# Altium integrated library Molex FFC - FPC Connectors (SMT).IntLib: 638 symbols (part 14 of 20)
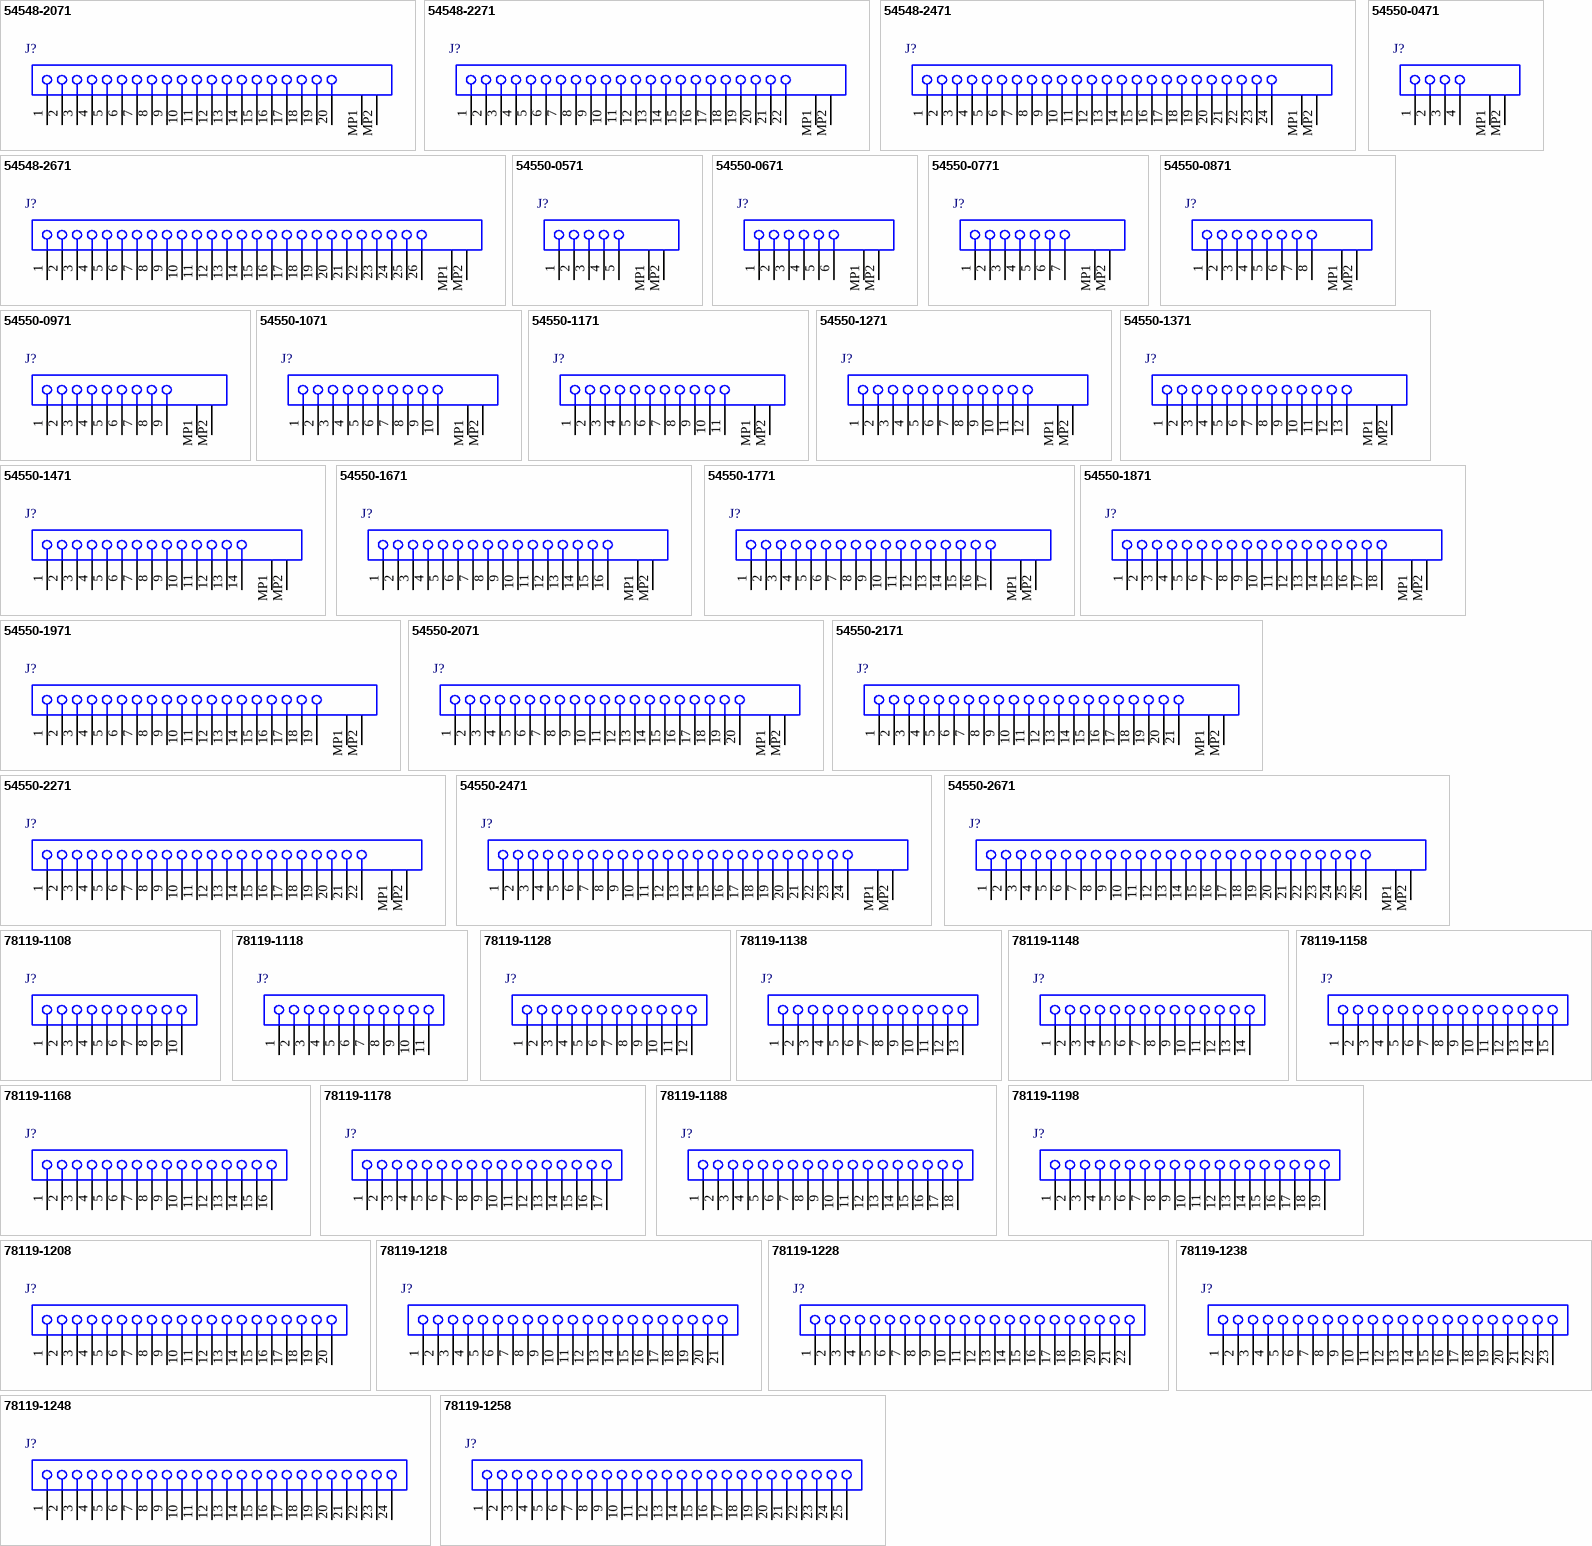
[diagram p34: symbols 54548-2071 to 78119-1258]

## 54550-2471
designator J?
0.5 mm Pitch Easy-On(TM) Type FPC Connector, 1.2 mm Mated Height, Right Angle, ZIF, SMT, Top Contact, 24 Circuits, -20 to 85 degC, ELV and RoHS Compliant, Tape and Reel; Manufacturer: Molex; PartNumber: 54550-2471; Circuits (Loaded): 24; Current (Max per Contact): 0.5A; Durability (mating cycles max): 20; Entry Angle: 90degrees Angle; Mated Height: 1.20mm; Material - Metal: Phosphor Bronze; Material - Plating Mating: Gold; Material - Plating Termination: Tin; PCB Locator: No; PCB Retention: Yes; Pitch - Mating Interface: 0.50mm; Voltage (Max): 50V; PackageVersion: Rev. M, 12/2009; PackageReference: 54550-2471; PackageDescription: 24-Lead FPC Connector, Pitch 0.5 mm; Contact Position: Top; Number of Rows: 1; Orientation: Right Angle; Packing: Tape and Reel; Polarized to PCB: Yes; RoHS: TRUE; Stackable: No; Mounting Technology: Surface Mount; ComponentLink1Description: Manufacturer URL; ComponentLink1URL: http://www.molex.com/molex/index.jsp; ComponentLink2Description: Datasheet; ComponentLink2URL: http://www.molex.com/webdocs/datasheets/pdf/en-us/0545502471_FFC_FPC_CONNECTORS.pdf; ComponentLink3Description: Package Specification; ComponentLink3URL: http://www.molex.com/pdm_docs/sd/545502471_sd.pdf
footprint MOLX-54550-2471 (FPC Connector, 24-Leads, Right Angle, Pitch 0.5 mm, Mated Height 1.2 mm, SMT)
pins: 1, 2, 3, 4, 5, 6, 7, 8, 9, 10, 11, 12, 13, 14, 15, 16, 17, 18, 19, 20, 21, 22, 23, 24, MP1, MP2

## 54550-2671
designator J?
0.5 mm Pitch Easy-On(TM) Type FPC Connector, 1.2 mm Mated Height, Right Angle, ZIF, SMT, Top Contact, 26 Circuits, -20 to 85 degC, ELV and RoHS Compliant, Tape and Reel; Manufacturer: Molex; PartNumber: 54550-2671; Circuits (Loaded): 26; Current (Max per Contact): 0.5A; Durability (mating cycles max): 20; Entry Angle: 90degrees Angle; Mated Height: 1.20mm; Material - Metal: Phosphor Bronze; Material - Plating Mating: Gold; Material - Plating Termination: Tin; PCB Locator: No; PCB Retention: Yes; Pitch - Mating Interface: 0.50mm; Voltage (Max): 50V; PackageVersion: Rev. M, 12/2009; PackageReference: 54550-2671; PackageDescription: 26-Lead FPC Connector, Pitch 0.5 mm; Contact Position: Top; Number of Rows: 1; Orientation: Right Angle; Packing: Tape and Reel; Polarized to PCB: Yes; RoHS: TRUE; Stackable: No; Mounting Technology: Surface Mount; ComponentLink1Description: Manufacturer URL; ComponentLink1URL: http://www.molex.com/molex/index.jsp; ComponentLink2Description: Datasheet; ComponentLink2URL: http://www.molex.com/webdocs/datasheets/pdf/en-us/0545502671_FFC_FPC_CONNECTORS.pdf; ComponentLink3Description: Package Specification; ComponentLink3URL: http://www.molex.com/pdm_docs/sd/545502671_sd.pdf
footprint MOLX-54550-2671 (FPC Connector, 26-Leads, Right Angle, Pitch 0.5 mm, Mated Height 1.2 mm, SMT)
pins: 1, 2, 3, 4, 5, 6, 7, 8, 9, 10, 11, 12, 13, 14, 15, 16, 17, 18, 19, 20, 21, 22, 23, 24, 25, 26, MP1, MP2

## 78119-1108
designator J?
0.5 mm Pitch Easy-On(TM) Type FPC Connector, 4.1 mm Mated Height, Vertical, Non-ZIF, SMT, 10 Circuits, -40 to 85 degC, ELV and RoHS Compliant, Tape and Reel; Manufacturer: Molex; PartNumber: 78119-1108; Circuits (Loaded): 10; Current (Max per Contact): 0.5A; Durability (mating cycles max): 20; Mated Height: 4.10mm; Material - Metal: Copper Alloy; Material - Plating Mating: Gold, Nickel; PCB Locator: No; PCB Retention: None; Pitch - Mating Interface: 0.50mm; Voltage (Max): 50V AC; PackageVersion: Rev. A4, 06/2013; PackageReference: 78119-1108; PackageDescription: 10-Lead FPC Connector, Pitch 0.5 mm; Contact Position: N/A; Entry Angle: Vertical; Number of Rows: 1; Orientation: Vertical; Packing: Tape and Reel; Pitch - Termination Interface: 0.50mm; Polarized to PCB: No; RoHS: TRUE; Stackable: No; Mounting Technology: Surface Mount; ComponentLink1Description: Manufacturer URL; ComponentLink1URL: http://www.molex.com/molex/index.jsp; ComponentLink2Description: Datasheet; ComponentLink2URL: http://www.molex.com/webdocs/datasheets/pdf/en-us/0781191108_FFC_FPC_CONNECTORS.pdf; ComponentLink3Description: Package Specification; ComponentLink3URL: http://www.molex.com/pdm_docs/sd/781191108_sd.pdf
footprint MOLX-78119-1108 (FPC Connector, 10-Leads, Vertical, Pitch 0.5 mm, Mated Height 4.1 mm, SMT)
pins: 1, 2, 3, 4, 5, 6, 7, 8, 9, 10

## 78119-1118
designator J?
0.5 mm Pitch Easy-On(TM) Type FPC Connector, 4.1 mm Mated Height, Vertical, Non-ZIF, SMT, 11 Circuits, -40 to 85 degC, ELV and RoHS Compliant, Tape and Reel; Manufacturer: Molex; PartNumber: 78119-1118; Circuits (Loaded): 11; Current (Max per Contact): 0.5A; Durability (mating cycles max): 20; Mated Height: 4.10mm; Material - Metal: Copper Alloy; Material - Plating Mating: Gold, Nickel; PCB Locator: No; PCB Retention: None; Pitch - Mating Interface: 0.50mm; Voltage (Max): 50V AC; PackageVersion: Rev. A4, 06/2013; PackageReference: 78119-1118; PackageDescription: 11-Lead FPC Connector, Pitch 0.5 mm; Contact Position: N/A; Entry Angle: Vertical; Number of Rows: 1; Orientation: Vertical; Packing: Tape and Reel; Pitch - Termination Interface: 0.50mm; Polarized to PCB: No; RoHS: TRUE; Stackable: No; Mounting Technology: Surface Mount; ComponentLink1Description: Manufacturer URL; ComponentLink1URL: http://www.molex.com/molex/index.jsp; ComponentLink2Description: Datasheet; ComponentLink2URL: http://www.molex.com/webdocs/datasheets/pdf/en-us/0781191118_FFC_FPC_CONNECTORS.pdf; ComponentLink3Description: Package Specification; ComponentLink3URL: http://www.molex.com/pdm_docs/sd/781191118_sd.pdf
footprint MOLX-78119-1118 (FPC Connector, 11-Leads, Vertical, Pitch 0.5 mm, Mated Height 4.1 mm, SMT)
pins: 1, 2, 3, 4, 5, 6, 7, 8, 9, 10, 11

## 78119-1128
designator J?
0.5 mm Pitch Easy-On(TM) Type FPC Connector, 4.1 mm Mated Height, Vertical, Non-ZIF, SMT, 12 Circuits, -40 to 85 degC, ELV and RoHS Compliant, Tape and Reel; Manufacturer: Molex; PartNumber: 78119-1128; Circuits (Loaded): 12; Current (Max per Contact): 0.5A; Durability (mating cycles max): 20; Mated Height: 4.10mm; Material - Metal: Copper Alloy; Material - Plating Mating: Gold, Nickel; PCB Locator: No; PCB Retention: None; Pitch - Mating Interface: 0.50mm; Voltage (Max): 50V AC; PackageVersion: Rev. A4, 06/2013; PackageReference: 78119-1128; PackageDescription: 12-Lead FPC Connector, Pitch 0.5 mm; Contact Position: N/A; Entry Angle: Vertical; Number of Rows: 1; Orientation: Vertical; Packing: Tape and Reel; Pitch - Termination Interface: 0.50mm; Polarized to PCB: No; RoHS: TRUE; Stackable: No; Mounting Technology: Surface Mount; ComponentLink1Description: Manufacturer URL; ComponentLink1URL: http://www.molex.com/molex/index.jsp; ComponentLink2Description: Datasheet; ComponentLink2URL: http://www.molex.com/webdocs/datasheets/pdf/en-us/0781191128_FFC_FPC_CONNECTORS.pdf; ComponentLink3Description: Package Specification; ComponentLink3URL: http://www.molex.com/pdm_docs/sd/781191128_sd.pdf
footprint MOLX-78119-1128 (FPC Connector, 12-Leads, Vertical, Pitch 0.5 mm, Mated Height 4.1 mm, SMT)
pins: 1, 2, 3, 4, 5, 6, 7, 8, 9, 10, 11, 12

## 78119-1138
designator J?
0.5 mm Pitch Easy-On(TM) Type FPC Connector, 4.1 mm Mated Height, Vertical, Non-ZIF, SMT, 13 Circuits, -40 to 85 degC, ELV and RoHS Compliant, Tape and Reel; Manufacturer: Molex; PartNumber: 78119-1138; Circuits (Loaded): 13; Current (Max per Contact): 0.5A; Durability (mating cycles max): 20; Mated Height: 4.10mm; Material - Metal: Copper Alloy; Material - Plating Mating: Gold, Nickel; PCB Locator: No; PCB Retention: None; Pitch - Mating Interface: 0.50mm; Voltage (Max): 50V AC; PackageVersion: Rev. A4, 06/2013; PackageReference: 78119-1138; PackageDescription: 13-Lead FPC Connector, Pitch 0.5 mm; Contact Position: N/A; Entry Angle: Vertical; Number of Rows: 1; Orientation: Vertical; Packing: Tape and Reel; Pitch - Termination Interface: 0.50mm; Polarized to PCB: No; RoHS: TRUE; Stackable: No; Mounting Technology: Surface Mount; ComponentLink1Description: Manufacturer URL; ComponentLink1URL: http://www.molex.com/molex/index.jsp; ComponentLink2Description: Datasheet; ComponentLink2URL: http://www.molex.com/webdocs/datasheets/pdf/en-us/0781191138_FFC_FPC_CONNECTORS.pdf; ComponentLink3Description: Package Specification; ComponentLink3URL: http://www.molex.com/pdm_docs/sd/781191138_sd.pdf
footprint MOLX-78119-1138 (FPC Connector, 13-Leads, Vertical, Pitch 0.5 mm, Mated Height 4.1 mm, SMT)
pins: 1, 2, 3, 4, 5, 6, 7, 8, 9, 10, 11, 12, 13

## 78119-1148
designator J?
0.5 mm Pitch Easy-On(TM) Type FPC Connector, 4.1 mm Mated Height, Vertical, Non-ZIF, SMT, 14 Circuits, -40 to 85 degC, ELV and RoHS Compliant, Tape and Reel; Manufacturer: Molex; PartNumber: 78119-1148; Circuits (Loaded): 14; Current (Max per Contact): 0.5A; Durability (mating cycles max): 20; Mated Height: 4.10mm; Material - Metal: Copper Alloy; Material - Plating Mating: Gold, Nickel; PCB Locator: No; PCB Retention: None; Pitch - Mating Interface: 0.50mm; Voltage (Max): 50V AC; PackageVersion: Rev. A4, 06/2013; PackageReference: 78119-1148; PackageDescription: 14-Lead FPC Connector, Pitch 0.5 mm; Contact Position: N/A; Entry Angle: Vertical; Number of Rows: 1; Orientation: Vertical; Packing: Tape and Reel; Pitch - Termination Interface: 0.50mm; Polarized to PCB: No; RoHS: TRUE; Stackable: No; Mounting Technology: Surface Mount; ComponentLink1Description: Manufacturer URL; ComponentLink1URL: http://www.molex.com/molex/index.jsp; ComponentLink2Description: Datasheet; ComponentLink2URL: http://www.molex.com/webdocs/datasheets/pdf/en-us/0781191148_FFC_FPC_CONNECTORS.pdf; ComponentLink3Description: Package Specification; ComponentLink3URL: http://www.molex.com/pdm_docs/sd/781191148_sd.pdf
footprint MOLX-78119-1148 (FPC Connector, 14-Leads, Vertical, Pitch 0.5 mm, Mated Height 4.1 mm, SMT)
pins: 1, 2, 3, 4, 5, 6, 7, 8, 9, 10, 11, 12, 13, 14

## 78119-1158
designator J?
0.5 mm Pitch Easy-On(TM) Type FPC Connector, 4.1 mm Mated Height, Vertical, Non-ZIF, SMT, 15 Circuits, -40 to 85 degC, ELV and RoHS Compliant, Tape and Reel; Manufacturer: Molex; PartNumber: 78119-1158; Circuits (Loaded): 15; Current (Max per Contact): 0.5A; Durability (mating cycles max): 20; Mated Height: 4.10mm; Material - Metal: Copper Alloy; Material - Plating Mating: Gold, Nickel; PCB Locator: No; PCB Retention: None; Pitch - Mating Interface: 0.50mm; Voltage (Max): 50V AC; PackageVersion: Rev. A4, 06/2013; PackageReference: 78119-1158; PackageDescription: 15-Lead FPC Connector, Pitch 0.5 mm; Contact Position: N/A; Entry Angle: Vertical; Number of Rows: 1; Orientation: Vertical; Packing: Tape and Reel; Pitch - Termination Interface: 0.50mm; Polarized to PCB: No; RoHS: TRUE; Stackable: No; Mounting Technology: Surface Mount; ComponentLink1Description: Manufacturer URL; ComponentLink1URL: http://www.molex.com/molex/index.jsp; ComponentLink2Description: Datasheet; ComponentLink2URL: http://www.molex.com/webdocs/datasheets/pdf/en-us/0781191158_FFC_FPC_CONNECTORS.pdf; ComponentLink3Description: Package Specification; ComponentLink3URL: http://www.molex.com/pdm_docs/sd/781191158_sd.pdf
footprint MOLX-78119-1158 (FPC Connector, 15-Leads, Vertical, Pitch 0.5 mm, Mated Height 4.1 mm, SMT)
pins: 1, 2, 3, 4, 5, 6, 7, 8, 9, 10, 11, 12, 13, 14, 15

## 78119-1168
designator J?
0.5 mm Pitch Easy-On(TM) Type FPC Connector, 4.1 mm Mated Height, Vertical, Non-ZIF, SMT, 16 Circuits, -40 to 85 degC, ELV and RoHS Compliant, Tape and Reel; Manufacturer: Molex; PartNumber: 78119-1168; Circuits (Loaded): 16; Current (Max per Contact): 0.5A; Durability (mating cycles max): 20; Mated Height: 4.10mm; Material - Metal: Copper Alloy; Material - Plating Mating: Gold, Nickel; PCB Locator: No; PCB Retention: None; Pitch - Mating Interface: 0.50mm; Voltage (Max): 50V AC; PackageVersion: Rev. A4, 06/2013; PackageReference: 78119-1168; PackageDescription: 16-Lead FPC Connector, Pitch 0.5 mm; Contact Position: N/A; Entry Angle: Vertical; Number of Rows: 1; Orientation: Vertical; Packing: Tape and Reel; Pitch - Termination Interface: 0.50mm; Polarized to PCB: No; RoHS: TRUE; Stackable: No; Mounting Technology: Surface Mount; ComponentLink1Description: Manufacturer URL; ComponentLink1URL: http://www.molex.com/molex/index.jsp; ComponentLink2Description: Datasheet; ComponentLink2URL: http://www.molex.com/webdocs/datasheets/pdf/en-us/0781191168_FFC_FPC_CONNECTORS.pdf; ComponentLink3Description: Package Specification; ComponentLink3URL: http://www.molex.com/pdm_docs/sd/781191168_sd.pdf
footprint MOLX-78119-1168 (FPC Connector, 16-Leads, Vertical, Pitch 0.5 mm, Mated Height 4.1 mm, SMT)
pins: 1, 2, 3, 4, 5, 6, 7, 8, 9, 10, 11, 12, 13, 14, 15, 16

## 78119-1178
designator J?
0.5 mm Pitch Easy-On(TM) Type FPC Connector, 4.1 mm Mated Height, Vertical, Non-ZIF, SMT, 17 Circuits, -40 to 85 degC, ELV and RoHS Compliant, Tape and Reel; Manufacturer: Molex; PartNumber: 78119-1178; Circuits (Loaded): 17; Current (Max per Contact): 0.5A; Durability (mating cycles max): 20; Mated Height: 4.10mm; Material - Metal: Copper Alloy; Material - Plating Mating: Gold, Nickel; PCB Locator: No; PCB Retention: None; Pitch - Mating Interface: 0.50mm; Voltage (Max): 50V AC; PackageVersion: Rev. A4, 06/2013; PackageReference: 78119-1178; PackageDescription: 17-Lead FPC Connector, Pitch 0.5 mm; Contact Position: N/A; Entry Angle: Vertical; Number of Rows: 1; Orientation: Vertical; Packing: Tape and Reel; Pitch - Termination Interface: 0.50mm; Polarized to PCB: No; RoHS: TRUE; Stackable: No; Mounting Technology: Surface Mount; ComponentLink1Description: Manufacturer URL; ComponentLink1URL: http://www.molex.com/molex/index.jsp; ComponentLink2Description: Datasheet; ComponentLink2URL: http://www.molex.com/webdocs/datasheets/pdf/en-us/0781191178_FFC_FPC_CONNECTORS.pdf; ComponentLink3Description: Package Specification; ComponentLink3URL: http://www.molex.com/pdm_docs/sd/781191178_sd.pdf
footprint MOLX-78119-1178 (FPC Connector, 17-Leads, Vertical, Pitch 0.5 mm, Mated Height 4.1 mm, SMT)
pins: 1, 2, 3, 4, 5, 6, 7, 8, 9, 10, 11, 12, 13, 14, 15, 16, 17

## 78119-1188
designator J?
0.5 mm Pitch Easy-On(TM) Type FPC Connector, 4.1 mm Mated Height, Vertical, Non-ZIF, SMT, 18 Circuits, -40 to 85 degC, ELV and RoHS Compliant, Tape and Reel; Manufacturer: Molex; PartNumber: 78119-1188; Circuits (Loaded): 18; Current (Max per Contact): 0.5A; Durability (mating cycles max): 20; Mated Height: 4.10mm; Material - Metal: Copper Alloy; Material - Plating Mating: Gold, Nickel; PCB Locator: No; PCB Retention: None; Pitch - Mating Interface: 0.50mm; Voltage (Max): 50V AC; PackageVersion: Rev. A4, 06/2013; PackageReference: 78119-1188; PackageDescription: 18-Lead FPC Connector, Pitch 0.5 mm; Contact Position: N/A; Entry Angle: Vertical; Number of Rows: 1; Orientation: Vertical; Packing: Tape and Reel; Pitch - Termination Interface: 0.50mm; Polarized to PCB: No; RoHS: TRUE; Stackable: No; Mounting Technology: Surface Mount; ComponentLink1Description: Manufacturer URL; ComponentLink1URL: http://www.molex.com/molex/index.jsp; ComponentLink2Description: Datasheet; ComponentLink2URL: http://www.molex.com/webdocs/datasheets/pdf/en-us/0781191188_FFC_FPC_CONNECTORS.pdf; ComponentLink3Description: Package Specification; ComponentLink3URL: http://www.molex.com/pdm_docs/sd/781191188_sd.pdf
footprint MOLX-78119-1188 (FPC Connector, 18-Leads, Vertical, Pitch 0.5 mm, Mated Height 4.1 mm, SMT)
pins: 1, 2, 3, 4, 5, 6, 7, 8, 9, 10, 11, 12, 13, 14, 15, 16, 17, 18

## 78119-1198
designator J?
0.5 mm Pitch Easy-On(TM) Type FPC Connector, 4.1 mm Mated Height, Vertical, Non-ZIF, SMT, 19 Circuits, -40 to 85 degC, ELV and RoHS Compliant, Tape and Reel; Manufacturer: Molex; PartNumber: 78119-1198; Circuits (Loaded): 19; Current (Max per Contact): 0.5A; Durability (mating cycles max): 20; Mated Height: 4.10mm; Material - Metal: Copper Alloy; Material - Plating Mating: Gold, Nickel; PCB Locator: No; PCB Retention: None; Pitch - Mating Interface: 0.50mm; Voltage (Max): 50V AC; PackageVersion: Rev. A4, 06/2013; PackageReference: 78119-1198; PackageDescription: 19-Lead FPC Connector, Pitch 0.5 mm; Contact Position: N/A; Entry Angle: Vertical; Number of Rows: 1; Orientation: Vertical; Packing: Tape and Reel; Pitch - Termination Interface: 0.50mm; Polarized to PCB: No; RoHS: TRUE; Stackable: No; Mounting Technology: Surface Mount; ComponentLink1Description: Manufacturer URL; ComponentLink1URL: http://www.molex.com/molex/index.jsp; ComponentLink2Description: Datasheet; ComponentLink2URL: http://www.molex.com/webdocs/datasheets/pdf/en-us/0781191198_FFC_FPC_CONNECTORS.pdf; ComponentLink3Description: Package Specification; ComponentLink3URL: http://www.molex.com/pdm_docs/sd/781191198_sd.pdf
footprint MOLX-78119-1198 (FPC Connector, 19-Leads, Vertical, Pitch 0.5 mm, Mated Height 4.1 mm, SMT)
pins: 1, 2, 3, 4, 5, 6, 7, 8, 9, 10, 11, 12, 13, 14, 15, 16, 17, 18, 19

## 78119-1208
designator J?
0.5 mm Pitch Easy-On(TM) Type FPC Connector, 4.1 mm Mated Height, Vertical, Non-ZIF, SMT, 20 Circuits, -40 to 85 degC, ELV and RoHS Compliant, Tape and Reel; Manufacturer: Molex; PartNumber: 78119-1208; Circuits (Loaded): 20; Current (Max per Contact): 0.5A; Mated Height: 4.10mm; Material - Metal: Copper Alloy; Material - Plating Mating: Gold, Nickel; PCB Locator: No; PCB Retention: None; Pitch - Mating Interface: 0.50mm; Voltage (Max): 50V AC; PackageVersion: Rev. A4, 06/2013; PackageReference: 78119-1208; PackageDescription: 20-Lead FPC Connector, Pitch 0.5 mm; Contact Position: N/A; Durability (mating cycles max): 20; Entry Angle: Vertical; Number of Rows: 1; Orientation: Vertical; Packing: Tape and Reel; Pitch - Termination Interface: 0.50mm; Polarized to PCB: No; RoHS: TRUE; Stackable: No; Mounting Technology: Surface Mount; ComponentLink1Description: Manufacturer URL; ComponentLink1URL: http://www.molex.com/molex/index.jsp; ComponentLink2Description: Datasheet; ComponentLink2URL: http://www.molex.com/webdocs/datasheets/pdf/en-us/0781191208_FFC_FPC_CONNECTORS.pdf; ComponentLink3Description: Package Specification; ComponentLink3URL: http://www.molex.com/pdm_docs/sd/781191208_sd.pdf
footprint MOLX-78119-1208 (FPC Connector, 20-Leads, Vertical, Pitch 0.5 mm, Mated Height 4.1 mm, SMT)
pins: 1, 2, 3, 4, 5, 6, 7, 8, 9, 10, 11, 12, 13, 14, 15, 16, 17, 18, 19, 20

## 78119-1218
designator J?
0.5 mm Pitch Easy-On(TM) Type FPC Connector, 4.1 mm Mated Height, Vertical, Non-ZIF, SMT, 21 Circuits, -40 to 85 degC, ELV and RoHS Compliant, Tape and Reel; Manufacturer: Molex; PartNumber: 78119-1218; Circuits (Loaded): 21; Current (Max per Contact): 0.5A; Durability (mating cycles max): 20; Mated Height: 4.10mm; Material - Metal: Copper Alloy; Material - Plating Mating: Gold, Nickel; PCB Locator: No; PCB Retention: None; Pitch - Mating Interface: 0.50mm; Voltage (Max): 50V AC; PackageVersion: Rev. A4, 06/2013; PackageReference: 78119-1218; PackageDescription: 21-Lead FPC Connector, Pitch 0.5 mm; Contact Position: N/A; Entry Angle: Vertical; Number of Rows: 1; Orientation: Vertical; Packing: Tape and Reel; Pitch - Termination Interface: 0.50mm; Polarized to PCB: No; RoHS: TRUE; Stackable: No; Mounting Technology: Surface Mount; ComponentLink1Description: Manufacturer URL; ComponentLink1URL: http://www.molex.com/molex/index.jsp; ComponentLink2Description: Datasheet; ComponentLink2URL: http://www.molex.com/webdocs/datasheets/pdf/en-us/0781191218_FFC_FPC_CONNECTORS.pdf; ComponentLink3Description: Package Specification; ComponentLink3URL: http://www.molex.com/pdm_docs/sd/781191218_sd.pdf
footprint MOLX-78119-1218 (FPC Connector, 21-Leads, Vertical, Pitch 0.5 mm, Mated Height 4.1 mm, SMT)
pins: 1, 2, 3, 4, 5, 6, 7, 8, 9, 10, 11, 12, 13, 14, 15, 16, 17, 18, 19, 20, 21

## 78119-1228
designator J?
0.5 mm Pitch Easy-On(TM) Type FPC Connector, 4.1 mm Mated Height, Vertical, Non-ZIF, SMT, 22 Circuits, -40 to 85 degC, ELV and RoHS Compliant, Tape and Reel; Manufacturer: Molex; PartNumber: 78119-1228; Circuits (Loaded): 22; Current (Max per Contact): 0.5A; Durability (mating cycles max): 20; Mated Height: 4.10mm; Material - Metal: Copper Alloy; Material - Plating Mating: Gold, Nickel; PCB Locator: No; PCB Retention: None; Pitch - Mating Interface: 0.50mm; Voltage (Max): 50V AC; PackageVersion: Rev. A4, 06/2013; PackageReference: 78119-1228; PackageDescription: 22-Lead FPC Connector, Pitch 0.5 mm; Contact Position: N/A; Entry Angle: Vertical; Number of Rows: 1; Orientation: Vertical; Packing: Tape and Reel; Pitch - Termination Interface: 0.50mm; Polarized to PCB: No; RoHS: TRUE; Stackable: No; Mounting Technology: Surface Mount; ComponentLink1Description: Manufacturer URL; ComponentLink1URL: http://www.molex.com/molex/index.jsp; ComponentLink2Description: Datasheet; ComponentLink2URL: http://www.molex.com/webdocs/datasheets/pdf/en-us/0781191228_FFC_FPC_CONNECTORS.pdf; ComponentLink3Description: Package Specification; ComponentLink3URL: http://www.molex.com/pdm_docs/sd/781191228_sd.pdf
footprint MOLX-78119-1228 (FPC Connector, 22-Leads, Vertical, Pitch 0.5 mm, Mated Height 4.1 mm, SMT)
pins: 1, 2, 3, 4, 5, 6, 7, 8, 9, 10, 11, 12, 13, 14, 15, 16, 17, 18, 19, 20, 21, 22

## 78119-1238
designator J?
0.5 mm Pitch Easy-On(TM) Type FPC Connector, 4.1 mm Mated Height, Vertical, Non-ZIF, SMT, 23 Circuits, -40 to 85 degC, ELV and RoHS Compliant, Tape and Reel; Manufacturer: Molex; PartNumber: 78119-1238; Circuits (Loaded): 23; Current (Max per Contact): 0.5A; Durability (mating cycles max): 20; Mated Height: 4.10mm; Material - Metal: Copper Alloy; Material - Plating Mating: Gold, Nickel; PCB Locator: No; PCB Retention: None; Pitch - Mating Interface: 0.50mm; Voltage (Max): 50V AC; PackageVersion: Rev. A4, 06/2013; PackageReference: 78119-1238; PackageDescription: 23-Lead FPC Connector, Pitch 0.5 mm; Contact Position: N/A; Entry Angle: Vertical; Number of Rows: 1; Orientation: Vertical; Packing: Tape and Reel; Pitch - Termination Interface: 0.50mm; Polarized to PCB: No; RoHS: TRUE; Stackable: No; Mounting Technology: Surface Mount; ComponentLink1Description: Manufacturer URL; ComponentLink1URL: http://www.molex.com/molex/index.jsp; ComponentLink2Description: Datasheet; ComponentLink2URL: http://www.molex.com/webdocs/datasheets/pdf/en-us/0781191238_FFC_FPC_CONNECTORS.pdf; ComponentLink3Description: Package Specification; ComponentLink3URL: http://www.molex.com/pdm_docs/sd/781191238_sd.pdf
footprint MOLX-78119-1238 (FPC Connector, 23-Leads, Vertical, Pitch 0.5 mm, Mated Height 4.1 mm, SMT)
pins: 1, 2, 3, 4, 5, 6, 7, 8, 9, 10, 11, 12, 13, 14, 15, 16, 17, 18, 19, 20, 21, 22, 23

## 78119-1248
designator J?
0.5 mm Pitch Easy-On(TM) Type FPC Connector, 4.1 mm Mated Height, Vertical, Non-ZIF, SMT, 24 Circuits, -40 to 85 degC, ELV and RoHS Compliant, Tape and Reel; Manufacturer: Molex; PartNumber: 78119-1248; Circuits (Loaded): 24; Current (Max per Contact): 0.5A; Durability (mating cycles max): 20; Mated Height: 4.10mm; Material - Metal: Copper Alloy; Material - Plating Mating: Gold, Nickel; PCB Locator: No; PCB Retention: None; Pitch - Mating Interface: 0.50mm; Voltage (Max): 50V AC; PackageVersion: Rev. A4, 06/2013; PackageReference: 78119-1248; PackageDescription: 24-Lead FPC Connector, Pitch 0.5 mm; Contact Position: N/A; Entry Angle: Vertical; Number of Rows: 1; Orientation: Vertical; Packing: Tape and Reel; Pitch - Termination Interface: 0.50mm; Polarized to PCB: No; RoHS: TRUE; Stackable: No; Mounting Technology: Surface Mount; ComponentLink1Description: Manufacturer URL; ComponentLink1URL: http://www.molex.com/molex/index.jsp; ComponentLink2Description: Datasheet; ComponentLink2URL: http://www.molex.com/webdocs/datasheets/pdf/en-us/0781191248_FFC_FPC_CONNECTORS.pdf; ComponentLink3Description: Package Specification; ComponentLink3URL: http://www.molex.com/pdm_docs/sd/781191248_sd.pdf
footprint MOLX-78119-1248 (FPC Connector, 24-Leads, Vertical, Pitch 0.5 mm, Mated Height 4.1 mm, SMT)
pins: 1, 2, 3, 4, 5, 6, 7, 8, 9, 10, 11, 12, 13, 14, 15, 16, 17, 18, 19, 20, 21, 22, 23, 24

## 78119-1258
designator J?
0.5 mm Pitch Easy-On(TM) Type FPC Connector, 4.1 mm Mated Height, Vertical, Non-ZIF, SMT, 25 Circuits, -40 to 85 degC, ELV and RoHS Compliant, Tape and Reel; Manufacturer: Molex; PartNumber: 78119-1258; Circuits (Loaded): 25; Current (Max per Contact): 0.5A; Durability (mating cycles max): 20; Mated Height: 4.10mm; Material - Metal: Copper Alloy; Material - Plating Mating: Gold, Nickel; PCB Locator: No; PCB Retention: None; Pitch - Mating Interface: 0.50mm; Voltage (Max): 50V AC; PackageVersion: Rev. A4, 06/2013; PackageReference: 78119-1258; PackageDescription: 25-Lead FPC Connector, Pitch 0.5 mm; Contact Position: N/A; Entry Angle: Vertical; Number of Rows: 1; Orientation: Vertical; Packing: Tape and Reel; Pitch - Termination Interface: 0.50mm; Polarized to PCB: No; RoHS: TRUE; Stackable: No; Mounting Technology: Surface Mount; ComponentLink1Description: Manufacturer URL; ComponentLink1URL: http://www.molex.com/molex/index.jsp; ComponentLink2Description: Datasheet; ComponentLink2URL: http://www.molex.com/webdocs/datasheets/pdf/en-us/0781191258_FFC_FPC_CONNECTORS.pdf; ComponentLink3Description: Package Specification; ComponentLink3URL: http://www.molex.com/pdm_docs/sd/781191258_sd.pdf
footprint MOLX-78119-1258 (FPC Connector, 25-Leads, Vertical, Pitch 0.5 mm, Mated Height 4.1 mm, SMT)
pins: 1, 2, 3, 4, 5, 6, 7, 8, 9, 10, 11, 12, 13, 14, 15, 16, 17, 18, 19, 20, 21, 22, 23, 24, 25

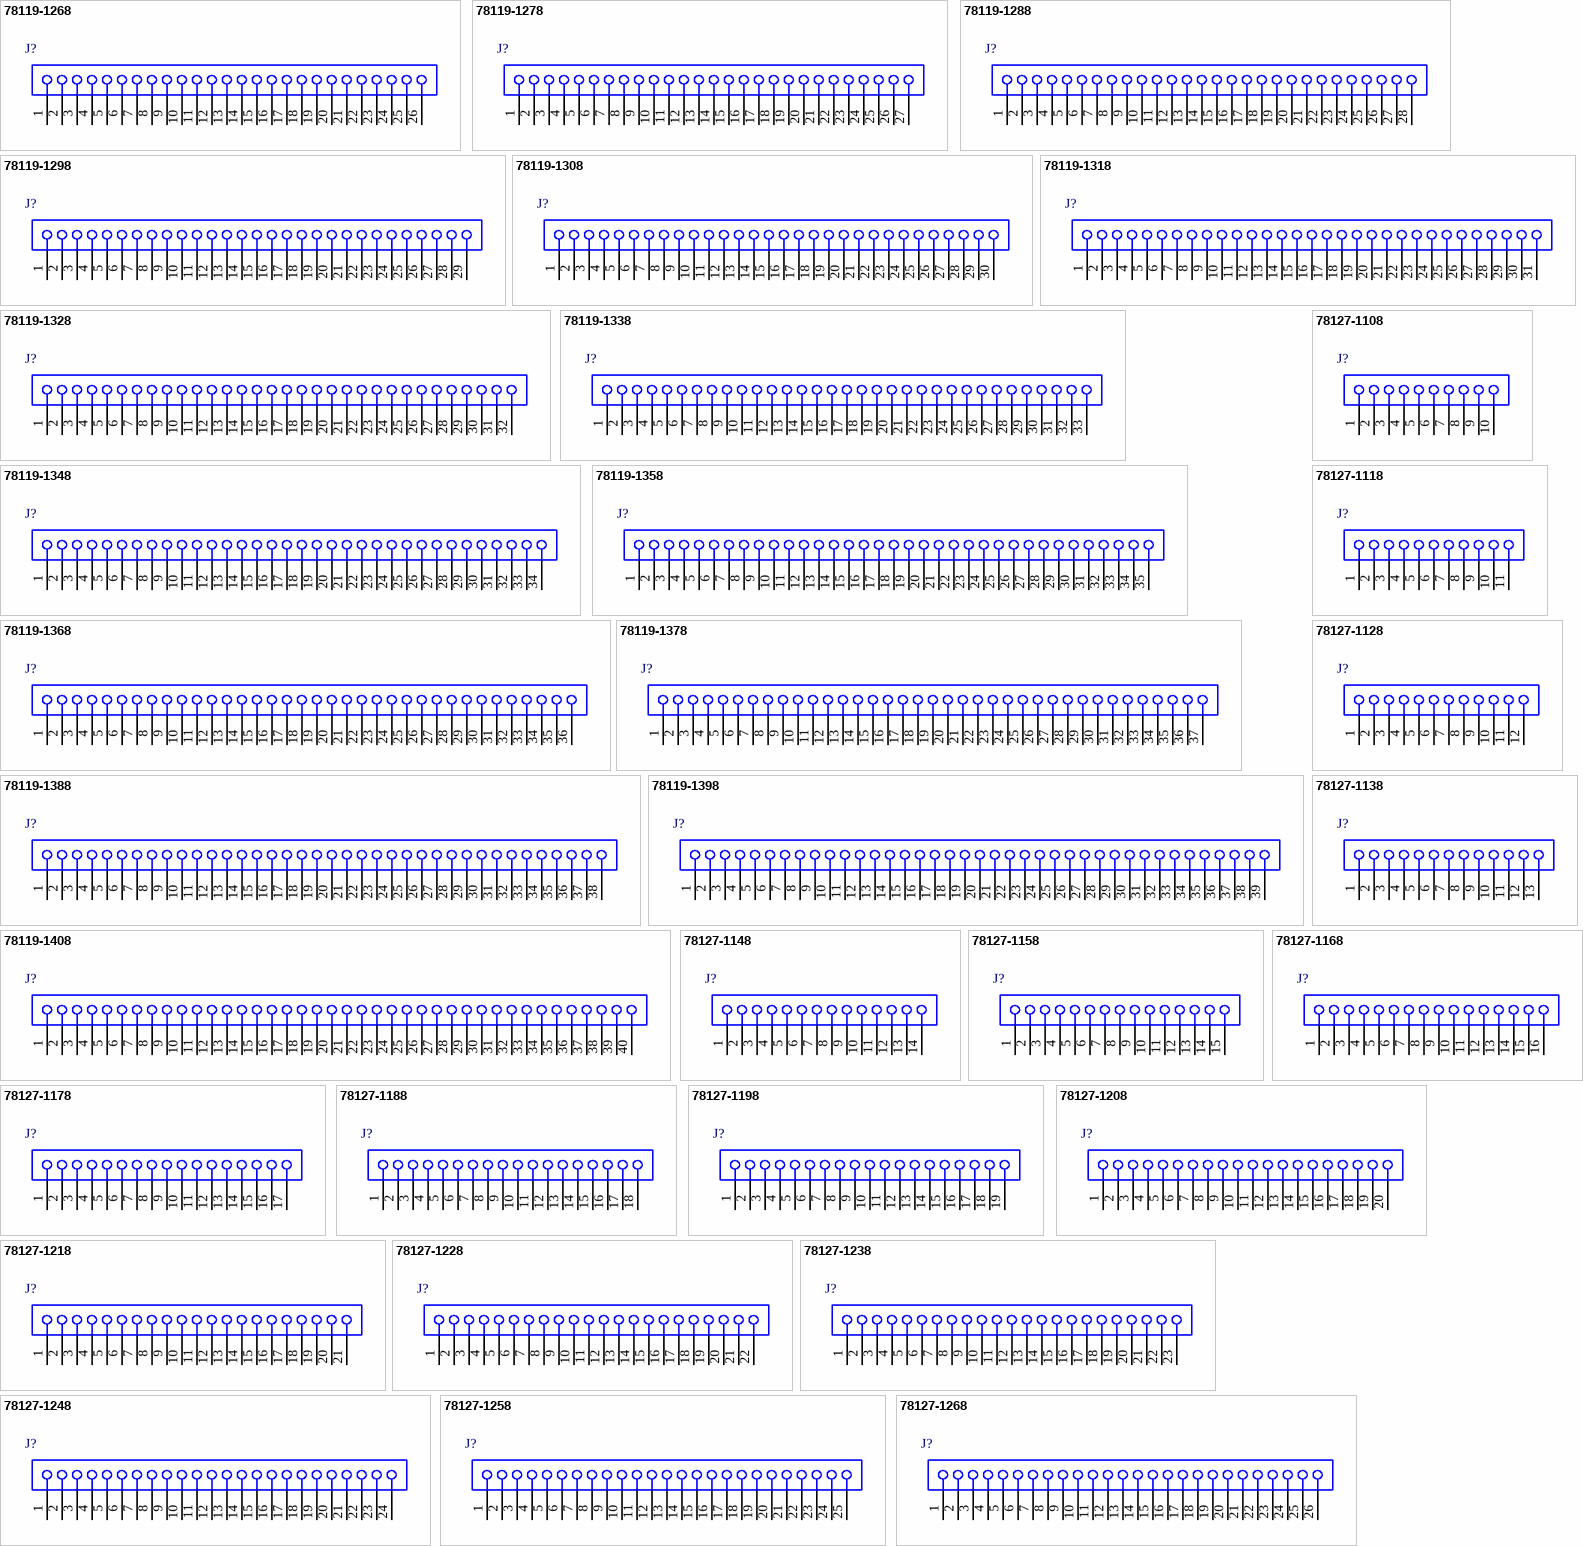
[diagram p13: symbols 78119-1268 to 78127-1268]

## 78119-1268
designator J?
0.5 mm Pitch Easy-On(TM) Type FPC Connector, 4.1 mm Mated Height, Vertical, Non-ZIF, SMT, 26 Circuits, -40 to 85 degC, ELV and RoHS Compliant, Tape and Reel; Manufacturer: Molex; PartNumber: 78119-1268; Circuits (Loaded): 26; Current (Max per Contact): 0.5A; Durability (mating cycles max): 20; Mated Height: 4.10mm; Material - Metal: Copper Alloy; Material - Plating Mating: Gold, Nickel; PCB Locator: No; PCB Retention: None; Pitch - Mating Interface: 0.50mm; Voltage (Max): 50V AC; PackageVersion: Rev. A4, 06/2013; PackageReference: 78119-1268; PackageDescription: 26-Lead FPC Connector, Pitch 0.5 mm; Contact Position: N/A; Entry Angle: Vertical; Number of Rows: 1; Orientation: Vertical; Packing: Tape and Reel; Pitch - Termination Interface: 0.50mm; Polarized to PCB: No; RoHS: TRUE; Stackable: No; Mounting Technology: Surface Mount; ComponentLink1Description: Manufacturer URL; ComponentLink1URL: http://www.molex.com/molex/index.jsp; ComponentLink2Description: Datasheet; ComponentLink2URL: http://www.molex.com/webdocs/datasheets/pdf/en-us/0781191268_FFC_FPC_CONNECTORS.pdf; ComponentLink3Description: Package Specification; ComponentLink3URL: http://www.molex.com/pdm_docs/sd/781191268_sd.pdf
footprint MOLX-78119-1268 (FPC Connector, 26-Leads, Vertical, Pitch 0.5 mm, Mated Height 4.1 mm, SMT)
pins: 1, 2, 3, 4, 5, 6, 7, 8, 9, 10, 11, 12, 13, 14, 15, 16, 17, 18, 19, 20, 21, 22, 23, 24, 25, 26

## 78119-1278
designator J?
0.5 mm Pitch Easy-On(TM) Type FPC Connector, 4.1 mm Mated Height, Vertical, Non-ZIF, SMT, 27 Circuits, -40 to 85 degC, ELV and RoHS Compliant, Tape and Reel; Manufacturer: Molex; PartNumber: 78119-1278; Circuits (Loaded): 27; Current (Max per Contact): 0.5A; Durability (mating cycles max): 20; Mated Height: 4.10mm; Material - Metal: Copper Alloy; Material - Plating Mating: Gold, Nickel; PCB Locator: No; PCB Retention: None; Pitch - Mating Interface: 0.50mm; Voltage (Max): 50V AC; PackageVersion: Rev. A4, 06/2013; PackageReference: 78119-1278; PackageDescription: 27-Lead FPC Connector, Pitch 0.5 mm; Contact Position: N/A; Entry Angle: Vertical; Number of Rows: 1; Orientation: Vertical; Packing: Tape and Reel; Pitch - Termination Interface: 0.50mm; Polarized to PCB: No; RoHS: TRUE; Stackable: No; Mounting Technology: Surface Mount; ComponentLink1Description: Manufacturer URL; ComponentLink1URL: http://www.molex.com/molex/index.jsp; ComponentLink2Description: Datasheet; ComponentLink2URL: http://www.molex.com/webdocs/datasheets/pdf/en-us/0781191278_FFC_FPC_CONNECTORS.pdf; ComponentLink3Description: Package Specification; ComponentLink3URL: http://www.molex.com/pdm_docs/sd/781191278_sd.pdf
footprint MOLX-78119-1278 (FPC Connector, 27-Leads, Vertical, Pitch 0.5 mm, Mated Height 4.1 mm, SMT)
pins: 1, 2, 3, 4, 5, 6, 7, 8, 9, 10, 11, 12, 13, 14, 15, 16, 17, 18, 19, 20, 21, 22, 23, 24, 25, 26, 27

## 78119-1288
designator J?
0.5 mm Pitch Easy-On(TM) Type FPC Connector, 4.1 mm Mated Height, Vertical, Non-ZIF, SMT, 28 Circuits, -40 to 85 degC, ELV and RoHS Compliant, Tape and Reel; Manufacturer: Molex; PartNumber: 78119-1288; Circuits (Loaded): 28; Current (Max per Contact): 0.5A; Durability (mating cycles max): 20; Mated Height: 4.10mm; Material - Metal: Copper Alloy; Material - Plating Mating: Gold, Nickel; PCB Locator: No; PCB Retention: None; Pitch - Mating Interface: 0.50mm; Voltage (Max): 50V AC; PackageVersion: Rev. A4, 06/2013; PackageReference: 78119-1288; PackageDescription: 28-Lead FPC Connector, Pitch 0.5 mm; Contact Position: N/A; Entry Angle: Vertical; Number of Rows: 1; Orientation: Vertical; Packing: Tape and Reel; Pitch - Termination Interface: 0.50mm; Polarized to PCB: No; RoHS: TRUE; Stackable: No; Mounting Technology: Surface Mount; ComponentLink1Description: Manufacturer URL; ComponentLink1URL: http://www.molex.com/molex/index.jsp; ComponentLink2Description: Datasheet; ComponentLink2URL: http://www.molex.com/webdocs/datasheets/pdf/en-us/0781191288_FFC_FPC_CONNECTORS.pdf; ComponentLink3Description: Package Specification; ComponentLink3URL: http://www.molex.com/pdm_docs/sd/781191288_sd.pdf
footprint MOLX-78119-1288 (FPC Connector, 28-Leads, Vertical, Pitch 0.5 mm, Mated Height 4.1 mm, SMT)
pins: 1, 2, 3, 4, 5, 6, 7, 8, 9, 10, 11, 12, 13, 14, 15, 16, 17, 18, 19, 20, 21, 22, 23, 24, 25, 26, 27, 28

## 78119-1298
designator J?
0.5 mm Pitch Easy-On(TM) Type FPC Connector, 4.1 mm Mated Height, Vertical, Non-ZIF, SMT, 29 Circuits, -40 to 85 degC, ELV and RoHS Compliant, Tape and Reel; Manufacturer: Molex; PartNumber: 78119-1298; Circuits (Loaded): 29; Current (Max per Contact): 0.5A; Durability (mating cycles max): 20; Mated Height: 4.10mm; Material - Metal: Copper Alloy; Material - Plating Mating: Gold, Nickel; PCB Locator: No; PCB Retention: None; Pitch - Mating Interface: 0.50mm; Voltage (Max): 50V AC; PackageVersion: Rev. A4, 06/2013; PackageReference: 78119-1298; PackageDescription: 29-Lead FPC Connector, Pitch 0.5 mm; Contact Position: N/A; Entry Angle: Vertical; Number of Rows: 1; Orientation: Vertical; Packing: Tape and Reel; Pitch - Termination Interface: 0.50mm; Polarized to PCB: No; RoHS: TRUE; Stackable: No; Mounting Technology: Surface Mount; ComponentLink1Description: Manufacturer URL; ComponentLink1URL: http://www.molex.com/molex/index.jsp; ComponentLink2Description: Datasheet; ComponentLink2URL: http://www.molex.com/webdocs/datasheets/pdf/en-us/0781191298_FFC_FPC_CONNECTORS.pdf; ComponentLink3Description: Package Specification; ComponentLink3URL: http://www.molex.com/pdm_docs/sd/781191298_sd.pdf
footprint MOLX-78119-1298 (FPC Connector, 29-Leads, Vertical, Pitch 0.5 mm, Mated Height 4.1 mm, SMT)
pins: 1, 2, 3, 4, 5, 6, 7, 8, 9, 10, 11, 12, 13, 14, 15, 16, 17, 18, 19, 20, 21, 22, 23, 24, 25, 26, 27, 28, 29

## 78119-1308
designator J?
0.5 mm Pitch Easy-On(TM) Type FPC Connector, 4.1 mm Mated Height, Vertical, Non-ZIF, SMT, 30 Circuits, -40 to 85 degC, ELV and RoHS Compliant, Tape and Reel; Manufacturer: Molex; PartNumber: 78119-1308; Circuits (Loaded): 30; Current (Max per Contact): 0.5A; Durability (mating cycles max): 20; Mated Height: 4.10mm; Material - Metal: Copper Alloy; Material - Plating Mating: Gold, Nickel; PCB Locator: No; PCB Retention: None; Pitch - Mating Interface: 0.50mm; Voltage (Max): 50V AC; PackageVersion: Rev. A4, 06/2013; PackageReference: 78119-1308; PackageDescription: 30-Lead FPC Connector, Pitch 0.5 mm; Contact Position: N/A; Entry Angle: Vertical; Number of Rows: 1; Orientation: Vertical; Packing: Tape and Reel; Pitch - Termination Interface: 0.50mm; Polarized to PCB: No; RoHS: TRUE; Stackable: No; Mounting Technology: Surface Mount; ComponentLink1Description: Manufacturer URL; ComponentLink1URL: http://www.molex.com/molex/index.jsp; ComponentLink2Description: Datasheet; ComponentLink2URL: http://www.molex.com/webdocs/datasheets/pdf/en-us/0781191308_FFC_FPC_CONNECTORS.pdf; ComponentLink3Description: Package Specification; ComponentLink3URL: http://www.molex.com/pdm_docs/sd/781191308_sd.pdf
footprint MOLX-78119-1308 (FPC Connector, 30-Leads, Vertical, Pitch 0.5 mm, Mated Height 4.1 mm, SMT)
pins: 1, 2, 3, 4, 5, 6, 7, 8, 9, 10, 11, 12, 13, 14, 15, 16, 17, 18, 19, 20, 21, 22, 23, 24, 25, 26, 27, 28, 29, 30

## 78119-1318
designator J?
0.5 mm Pitch Easy-On(TM) Type FPC Connector, 4.1 mm Mated Height, Vertical, Non-ZIF, SMT, 31 Circuits, -40 to 85 degC, ELV and RoHS Compliant, Tape and Reel; Manufacturer: Molex; PartNumber: 78119-1318; Circuits (Loaded): 31; Current (Max per Contact): 0.5A; Durability (mating cycles max): 20; Mated Height: 4.10mm; Material - Metal: Copper Alloy; Material - Plating Mating: Gold, Nickel; PCB Locator: No; PCB Retention: None; Pitch - Mating Interface: 0.50mm; Voltage (Max): 50V AC; PackageVersion: Rev. A4, 06/2013; PackageReference: 78119-1318; PackageDescription: 31-Lead FPC Connector, Pitch 0.5 mm; Contact Position: N/A; Entry Angle: Vertical; Number of Rows: 1; Orientation: Vertical; Packing: Tape and Reel; Pitch - Termination Interface: 0.50mm; Polarized to PCB: No; RoHS: TRUE; Stackable: No; Mounting Technology: Surface Mount; ComponentLink1Description: Manufacturer URL; ComponentLink1URL: http://www.molex.com/molex/index.jsp; ComponentLink2Description: Datasheet; ComponentLink2URL: http://www.molex.com/webdocs/datasheets/pdf/en-us/0781191318_FFC_FPC_CONNECTORS.pdf; ComponentLink3Description: Package Specification; ComponentLink3URL: http://www.molex.com/pdm_docs/sd/781191318_sd.pdf
footprint MOLX-78119-1318 (FPC Connector, 31-Leads, Vertical, Pitch 0.5 mm, Mated Height 4.1 mm, SMT)
pins: 1, 2, 3, 4, 5, 6, 7, 8, 9, 10, 11, 12, 13, 14, 15, 16, 17, 18, 19, 20, 21, 22, 23, 24, 25, 26, 27, 28, 29, 30, 31

## 78119-1328
designator J?
0.5 mm Pitch Easy-On(TM) Type FPC Connector, 4.1 mm Mated Height, Vertical, Non-ZIF, SMT, 32 Circuits, -40 to 85 degC, ELV and RoHS Compliant, Tape and Reel; Manufacturer: Molex; PartNumber: 78119-1328; Circuits (Loaded): 32; Current (Max per Contact): 0.5A; Durability (mating cycles max): 20; Mated Height: 4.10mm; Material - Metal: Copper Alloy; Material - Plating Mating: Gold, Nickel; PCB Locator: No; PCB Retention: None; Pitch - Mating Interface: 0.50mm; Voltage (Max): 50V AC; PackageVersion: Rev. A4, 06/2013; PackageReference: 78119-1328; PackageDescription: 32-Lead FPC Connector, Pitch 0.5 mm; Contact Position: N/A; Entry Angle: Vertical; Number of Rows: 1; Orientation: Vertical; Packing: Tape and Reel; Pitch - Termination Interface: 0.50mm; Polarized to PCB: No; RoHS: TRUE; Stackable: No; Mounting Technology: Surface Mount; ComponentLink1Description: Manufacturer URL; ComponentLink1URL: http://www.molex.com/molex/index.jsp; ComponentLink2Description: Datasheet; ComponentLink2URL: http://www.molex.com/webdocs/datasheets/pdf/en-us/0781191328_FFC_FPC_CONNECTORS.pdf; ComponentLink3Description: Package Specification; ComponentLink3URL: http://www.molex.com/pdm_docs/sd/781191328_sd.pdf
footprint MOLX-78119-1328 (FPC Connector, 32-Leads, Vertical, Pitch 0.5 mm, Mated Height 4.1 mm, SMT)
pins: 1, 2, 3, 4, 5, 6, 7, 8, 9, 10, 11, 12, 13, 14, 15, 16, 17, 18, 19, 20, 21, 22, 23, 24, 25, 26, 27, 28, 29, 30, 31, 32

## 78119-1338
designator J?
0.5 mm Pitch Easy-On(TM) Type FPC Connector, 4.1 mm Mated Height, Vertical, Non-ZIF, SMT, 33 Circuits, -40 to 85 degC, ELV and RoHS Compliant, Tape and Reel; Manufacturer: Molex; PartNumber: 78119-1338; Circuits (Loaded): 33; Current (Max per Contact): 0.5A; Durability (mating cycles max): 20; Mated Height: 4.10mm; Material - Metal: Copper Alloy; Material - Plating Mating: Gold, Nickel; PCB Locator: No; PCB Retention: None; Pitch - Mating Interface: 0.50mm; Voltage (Max): 50V AC; PackageVersion: Rev. A4, 06/2013; PackageReference: 78119-1338; PackageDescription: 33-Lead FPC Connector, Pitch 0.5 mm; Contact Position: N/A; Entry Angle: Vertical; Number of Rows: 1; Orientation: Vertical; Packing: Tape and Reel; Pitch - Termination Interface: 0.50mm; Polarized to PCB: No; RoHS: TRUE; Stackable: No; Mounting Technology: Surface Mount; ComponentLink1Description: Manufacturer URL; ComponentLink1URL: http://www.molex.com/molex/index.jsp; ComponentLink2Description: Datasheet; ComponentLink2URL: http://www.molex.com/webdocs/datasheets/pdf/en-us/0781191338_FFC_FPC_CONNECTORS.pdf; ComponentLink3Description: Package Specification; ComponentLink3URL: http://www.molex.com/pdm_docs/sd/781191338_sd.pdf
footprint MOLX-78119-1338 (FPC Connector, 33-Leads, Vertical, Pitch 0.5 mm, Mated Height 4.1 mm, SMT)
pins: 1, 2, 3, 4, 5, 6, 7, 8, 9, 10, 11, 12, 13, 14, 15, 16, 17, 18, 19, 20, 21, 22, 23, 24, 25, 26, 27, 28, 29, 30, 31, 32, 33

## 78119-1348
designator J?
0.5 mm Pitch Easy-On(TM) Type FPC Connector, 4.1 mm Mated Height, Vertical, Non-ZIF, SMT, 34 Circuits, -40 to 85 degC, ELV and RoHS Compliant, Tape and Reel; Manufacturer: Molex; PartNumber: 78119-1348; Circuits (Loaded): 34; Current (Max per Contact): 0.5A; Durability (mating cycles max): 20; Mated Height: 4.10mm; Material - Metal: Copper Alloy; Material - Plating Mating: Gold, Nickel; PCB Locator: No; PCB Retention: None; Pitch - Mating Interface: 0.50mm; Voltage (Max): 50V AC; PackageVersion: Rev. A4, 06/2013; PackageReference: 78119-1348; PackageDescription: 34-Lead FPC Connector, Pitch 0.5 mm; Contact Position: N/A; Entry Angle: Vertical; Number of Rows: 1; Orientation: Vertical; Packing: Tape and Reel; Pitch - Termination Interface: 0.50mm; Polarized to PCB: No; RoHS: TRUE; Stackable: No; Mounting Technology: Surface Mount; ComponentLink1Description: Manufacturer URL; ComponentLink1URL: http://www.molex.com/molex/index.jsp; ComponentLink2Description: Datasheet; ComponentLink2URL: http://www.molex.com/webdocs/datasheets/pdf/en-us/0781191348_FFC_FPC_CONNECTORS.pdf; ComponentLink3Description: Package Specification; ComponentLink3URL: http://www.molex.com/pdm_docs/sd/781191348_sd.pdf
footprint MOLX-78119-1348 (FPC Connector, 34-Leads, Vertical, Pitch 0.5 mm, Mated Height 4.1 mm, SMT)
pins: 1, 2, 3, 4, 5, 6, 7, 8, 9, 10, 11, 12, 13, 14, 15, 16, 17, 18, 19, 20, 21, 22, 23, 24, 25, 26, 27, 28, 29, 30, 31, 32, 33, 34

## 78119-1358
designator J?
0.5 mm Pitch Easy-On(TM) Type FPC Connector, 4.1 mm Mated Height, Vertical, Non-ZIF, SMT, 35 Circuits, -40 to 85 degC, ELV and RoHS Compliant, Tape and Reel; Manufacturer: Molex; PartNumber: 78119-1358; Circuits (Loaded): 35; Current (Max per Contact): 0.5A; Durability (mating cycles max): 20; Mated Height: 4.10mm; Material - Metal: Copper Alloy; Material - Plating Mating: Gold, Nickel; PCB Locator: No; PCB Retention: None; Pitch - Mating Interface: 0.50mm; Voltage (Max): 50V AC; PackageVersion: Rev. A4, 06/2013; PackageReference: 78119-1358; PackageDescription: 35-Lead FPC Connector, Pitch 0.5 mm; Contact Position: N/A; Entry Angle: Vertical; Number of Rows: 1; Orientation: Vertical; Packing: Tape and Reel; Pitch - Termination Interface: 0.50mm; Polarized to PCB: No; RoHS: TRUE; Stackable: No; Mounting Technology: Surface Mount; ComponentLink1Description: Manufacturer URL; ComponentLink1URL: http://www.molex.com/molex/index.jsp; ComponentLink2Description: Datasheet; ComponentLink2URL: http://www.molex.com/webdocs/datasheets/pdf/en-us/0781191358_FFC_FPC_CONNECTORS.pdf; ComponentLink3Description: Package Specification; ComponentLink3URL: http://www.molex.com/pdm_docs/sd/781191358_sd.pdf
footprint MOLX-78119-1358 (FPC Connector, 35-Leads, Vertical, Pitch 0.5 mm, Mated Height 4.1 mm, SMT)
pins: 1, 2, 3, 4, 5, 6, 7, 8, 9, 10, 11, 12, 13, 14, 15, 16, 17, 18, 19, 20, 21, 22, 23, 24, 25, 26, 27, 28, 29, 30, 31, 32, 33, 34, 35

## 78119-1368
designator J?
0.5 mm Pitch Easy-On(TM) Type FPC Connector, 4.1 mm Mated Height, Vertical, Non-ZIF, SMT, 36 Circuits, -40 to 85 degC, ELV and RoHS Compliant, Tape and Reel; Manufacturer: Molex; PartNumber: 78119-1368; Circuits (Loaded): 36; Current (Max per Contact): 0.5A; Durability (mating cycles max): 20; Mated Height: 4.10mm; Material - Metal: Copper Alloy; Material - Plating Mating: Gold, Nickel; PCB Locator: No; PCB Retention: None; Pitch - Mating Interface: 0.50mm; Voltage (Max): 50V AC; PackageVersion: Rev. A4, 06/2013; PackageReference: 78119-1368; PackageDescription: 36-Lead FPC Connector, Pitch 0.5 mm; Contact Position: N/A; Entry Angle: Vertical; Number of Rows: 1; Orientation: Vertical; Packing: Tape and Reel; Pitch - Termination Interface: 0.50mm; Polarized to PCB: No; RoHS: TRUE; Stackable: No; Mounting Technology: Surface Mount; ComponentLink1Description: Manufacturer URL; ComponentLink1URL: http://www.molex.com/molex/index.jsp; ComponentLink2Description: Datasheet; ComponentLink2URL: http://www.molex.com/webdocs/datasheets/pdf/en-us/0781191368_FFC_FPC_CONNECTORS.pdf; ComponentLink3Description: Package Specification; ComponentLink3URL: http://www.molex.com/pdm_docs/sd/781191368_sd.pdf
footprint MOLX-78119-1368 (FPC Connector, 36-Leads, Vertical, Pitch 0.5 mm, Mated Height 4.1 mm, SMT)
pins: 1, 2, 3, 4, 5, 6, 7, 8, 9, 10, 11, 12, 13, 14, 15, 16, 17, 18, 19, 20, 21, 22, 23, 24, 25, 26, 27, 28, 29, 30, 31, 32, 33, 34, 35, 36

## 78119-1378
designator J?
0.5 mm Pitch Easy-On(TM) Type FPC Connector, 4.1 mm Mated Height, Vertical, Non-ZIF, SMT, 37 Circuits, -40 to 85 degC, ELV and RoHS Compliant, Tape and Reel; Manufacturer: Molex; PartNumber: 78119-1378; Circuits (Loaded): 37; Current (Max per Contact): 0.5A; Durability (mating cycles max): 20; Mated Height: 4.10mm; Material - Metal: Copper Alloy; Material - Plating Mating: Gold, Nickel; PCB Locator: No; PCB Retention: None; Pitch - Mating Interface: 0.50mm; Voltage (Max): 50V AC; PackageVersion: Rev. A4, 06/2013; PackageReference: 78119-1378; PackageDescription: 37-Lead FPC Connector, Pitch 0.5 mm; Contact Position: N/A; Entry Angle: Vertical; Number of Rows: 1; Orientation: Vertical; Packing: Tape and Reel; Pitch - Termination Interface: 0.50mm; Polarized to PCB: No; RoHS: TRUE; Stackable: No; Mounting Technology: Surface Mount; ComponentLink1Description: Manufacturer URL; ComponentLink1URL: http://www.molex.com/molex/index.jsp; ComponentLink2Description: Datasheet; ComponentLink2URL: http://www.molex.com/webdocs/datasheets/pdf/en-us/0781191378_FFC_FPC_CONNECTORS.pdf; ComponentLink3Description: Package Specification; ComponentLink3URL: http://www.molex.com/pdm_docs/sd/781191378_sd.pdf
footprint MOLX-78119-1378 (FPC Connector, 37-Leads, Vertical, Pitch 0.5 mm, Mated Height 4.1 mm, SMT)
pins: 1, 2, 3, 4, 5, 6, 7, 8, 9, 10, 11, 12, 13, 14, 15, 16, 17, 18, 19, 20, 21, 22, 23, 24, 25, 26, 27, 28, 29, 30, 31, 32, 33, 34, 35, 36, 37

## 78119-1388
designator J?
0.5 mm Pitch Easy-On(TM) Type FPC Connector, 4.1 mm Mated Height, Vertical, Non-ZIF, SMT, 38 Circuits, -40 to 85 degC, ELV and RoHS Compliant, Tape and Reel; Manufacturer: Molex; PartNumber: 78119-1388; Circuits (Loaded): 38; Current (Max per Contact): 0.5A; Durability (mating cycles max): 20; Mated Height: 4.10mm; Material - Metal: Copper Alloy; Material - Plating Mating: Gold, Nickel; PCB Locator: No; PCB Retention: None; Pitch - Mating Interface: 0.50mm; Voltage (Max): 50V AC; PackageVersion: Rev. A4, 06/2013; PackageReference: 78119-1388; PackageDescription: 38-Lead FPC Connector, Pitch 0.5 mm; Contact Position: N/A; Entry Angle: Vertical; Number of Rows: 1; Orientation: Vertical; Packing: Tape and Reel; Pitch - Termination Interface: 0.50mm; Polarized to PCB: No; RoHS: TRUE; Stackable: No; Mounting Technology: Surface Mount; ComponentLink1Description: Manufacturer URL; ComponentLink1URL: http://www.molex.com/molex/index.jsp; ComponentLink2Description: Datasheet; ComponentLink2URL: http://www.molex.com/webdocs/datasheets/pdf/en-us/0781191388_FFC_FPC_CONNECTORS.pdf; ComponentLink3Description: Package Specification; ComponentLink3URL: http://www.molex.com/pdm_docs/sd/781191388_sd.pdf
footprint MOLX-78119-1388 (FPC Connector, 38-Leads, Vertical, Pitch 0.5 mm, Mated Height 4.1 mm, SMT)
pins: 1, 2, 3, 4, 5, 6, 7, 8, 9, 10, 11, 12, 13, 14, 15, 16, 17, 18, 19, 20, 21, 22, 23, 24, 25, 26, 27, 28, 29, 30, 31, 32, 33, 34, 35, 36, 37, 38

## 78119-1398
designator J?
0.5 mm Pitch Easy-On(TM) Type FPC Connector, 4.1 mm Mated Height, Vertical, Non-ZIF, SMT, 39 Circuits, -40 to 85 degC, ELV and RoHS Compliant, Tape and Reel; Manufacturer: Molex; PartNumber: 78119-1398; Circuits (Loaded): 39; Current (Max per Contact): 0.5A; Durability (mating cycles max): 20; Mated Height: 4.10mm; Material - Metal: Copper Alloy; Material - Plating Mating: Gold, Nickel; PCB Locator: No; PCB Retention: None; Pitch - Mating Interface: 0.50mm; Voltage (Max): 50V AC; PackageVersion: Rev. A4, 06/2013; PackageReference: 78119-1398; PackageDescription: 39-Lead FPC Connector, Pitch 0.5 mm; Contact Position: N/A; Entry Angle: Vertical; Number of Rows: 1; Orientation: Vertical; Packing: Tape and Reel; Pitch - Termination Interface: 0.50mm; Polarized to PCB: No; RoHS: TRUE; Stackable: No; Mounting Technology: Surface Mount; ComponentLink1Description: Manufacturer URL; ComponentLink1URL: http://www.molex.com/molex/index.jsp; ComponentLink2Description: Datasheet; ComponentLink2URL: http://www.molex.com/webdocs/datasheets/pdf/en-us/0781191398_FFC_FPC_CONNECTORS.pdf; ComponentLink3Description: Package Specification; ComponentLink3URL: http://www.molex.com/pdm_docs/sd/781191398_sd.pdf
footprint MOLX-78119-1398 (FPC Connector, 39-Leads, Vertical, Pitch 0.5 mm, Mated Height 4.1 mm, SMT)
pins: 1, 2, 3, 4, 5, 6, 7, 8, 9, 10, 11, 12, 13, 14, 15, 16, 17, 18, 19, 20, 21, 22, 23, 24, 25, 26, 27, 28, 29, 30, 31, 32, 33, 34, 35, 36, 37, 38, 39

## 78119-1408
designator J?
0.5 mm Pitch Easy-On(TM) Type FPC Connector, 4.1 mm Mated Height, Vertical, Non-ZIF, SMT, 40 Circuits, -40 to 85 degC, ELV and RoHS Compliant, Tape and Reel; Manufacturer: Molex; PartNumber: 78119-1408; Circuits (Loaded): 40; Current (Max per Contact): 0.5A; Durability (mating cycles max): 20; Mated Height: 4.10mm; Material - Metal: Copper Alloy; Material - Plating Mating: Gold, Nickel; PCB Locator: No; PCB Retention: None; Pitch - Mating Interface: 0.50mm; Voltage (Max): 50V AC; PackageVersion: Rev. A4, 06/2013; PackageReference: 78119-1408; PackageDescription: 40-Lead FPC Connector, Pitch 0.5 mm; Contact Position: N/A; Entry Angle: Vertical; Number of Rows: 1; Orientation: Vertical; Packing: Tape and Reel; Pitch - Termination Interface: 0.50mm; Polarized to PCB: No; RoHS: TRUE; Stackable: No; Mounting Technology: Surface Mount; ComponentLink1Description: Manufacturer URL; ComponentLink1URL: http://www.molex.com/molex/index.jsp; ComponentLink2Description: Datasheet; ComponentLink2URL: http://www.molex.com/webdocs/datasheets/pdf/en-us/0781191408_FFC_FPC_CONNECTORS.pdf; ComponentLink3Description: Package Specification; ComponentLink3URL: http://www.molex.com/pdm_docs/sd/781191408_sd.pdf
footprint MOLX-78119-1408 (FPC Connector, 40-Leads, Vertical, Pitch 0.5 mm, Mated Height 4.1 mm, SMT)
pins: 1, 2, 3, 4, 5, 6, 7, 8, 9, 10, 11, 12, 13, 14, 15, 16, 17, 18, 19, 20, 21, 22, 23, 24, 25, 26, 27, 28, 29, 30, 31, 32, 33, 34, 35, 36, 37, 38, 39, 40

## 78127-1108
designator J?
0.5 mm Pitch Easy-On(TM) Type FPC Connector, 4.1 mm Mated Height, Vertical, Non-ZIF, SMT, 10 Circuits, -40 to 85 degC, ELV and RoHS Compliant, Tape and Reel; Manufacturer: Molex; PartNumber: 78127-1108; Circuits (Loaded): 10; Current (Max per Contact): 0.5A; Durability (mating cycles max): 20; Mated Height: 4.10mm; Material - Metal: Copper Alloy; Material - Plating Mating: Gold, Nickel; PCB Locator: No; PCB Retention: None; Pitch - Mating Interface: 0.50mm; Voltage (Max): 50V AC; PackageVersion: Rev. B, 12/2012; PackageReference: 78127-1108; PackageDescription: 10-Lead FPC Connector, Pitch 0.5 mm; Circuits (maximum): 10; Contact Position: N/A; Entry Angle: Vertical; Number of Rows: 1; Orientation: Vertical; Packing: Tape and Reel; Pitch - Termination Interface: 0.50mm; Polarized to PCB: No; RoHS: TRUE; Stackable: No; Mounting Technology: Surface Mount; ComponentLink1Description: Manufacturer URL; ComponentLink1URL: http://www.molex.com/molex/index.jsp; ComponentLink2Description: Datasheet; ComponentLink2URL: http://www.molex.com/webdocs/datasheets/pdf/en-us/0781271108_FFC_FPC_CONNECTORS.pdf; ComponentLink3Description: Package Specification; ComponentLink3URL: http://www.molex.com/pdm_docs/sd/781271108_sd.pdf
footprint MOLX-78127-1108 (FPC Connector, 10-Leads, Vertical, Pitch 0.5 mm, Mated Height 4.1 mm, SMT)
pins: 1, 2, 3, 4, 5, 6, 7, 8, 9, 10